# Altium schematic symbol library TRF_ETH.SchLib: 1 symbol
Pins are listed as number, name and electrical type; pins without a type are passive.

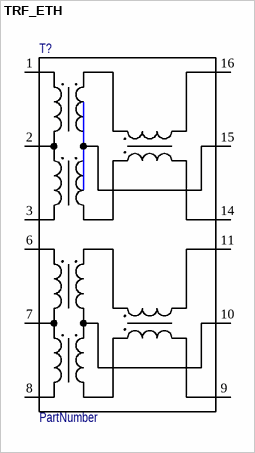
[diagram p0: symbol TRF_ETH]

## TRF_ETH
designator T?  (value not drawn)
Ethernet magnetics symbol; PartNumber: PartNumber
pins: 1 TD+, 2 TCT, 3 TD-, 6 RD+, 7 RCT, 8 RD-, 9 RX-, 10 CMT, 11 RX+, 14 TX-, 15 CMT, 16 TX+